# Altium schematic symbol library schLib.SchLib: 1 symbol
Pins are listed as number, name and electrical type; pins without a type are passive.

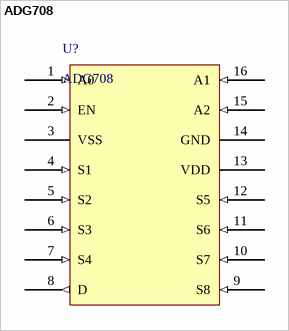
[diagram p0: symbol ADG708]

## ADG708
designator U?
footprint TSSOP16
pins: 1 A0 (in), 2 EN (in), 3 VSS (power), 4 S1 (in), 5 S2 (in), 6 S3 (in), 7 S4 (in), 8 D (out), 9 S8 (in), 10 S7 (in), 11 S6 (in), 12 S5 (in), 13 VDD (power), 14 GND (power), 15 A2 (in), 16 A1 (in)